# Altium schematic symbol library Heater.SchLib: 32 symbols
Pins are listed as number, name and electrical type; pins without a type are passive.

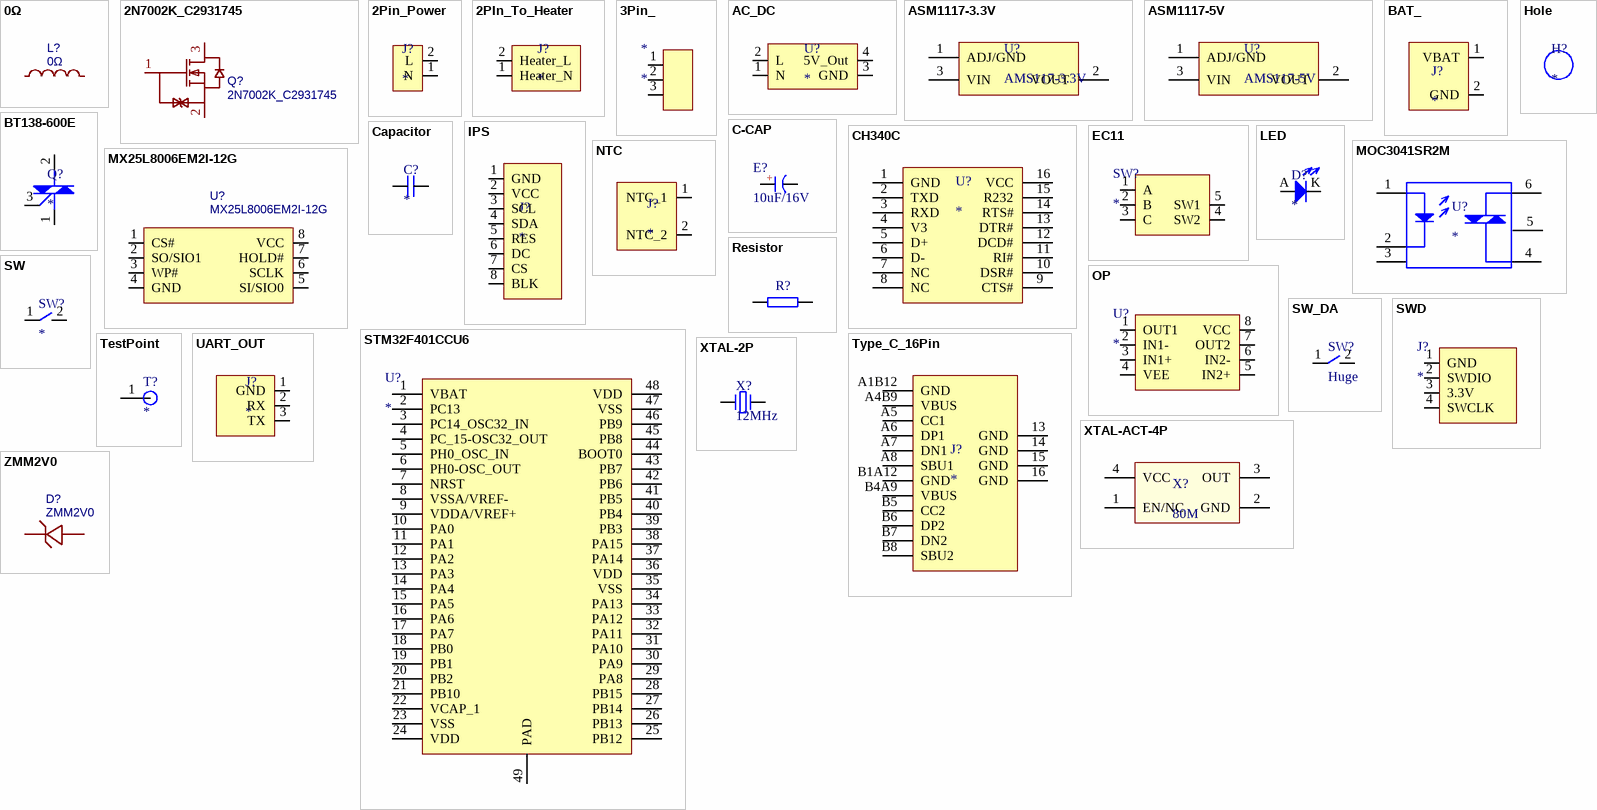
[diagram p0: symbols 0Ω to ZMM2V0]

## 0Ω
designator L?
BOM_Manufacturer: FH; BOM_Manufacturer Part: CBW160808U000T; nameAlias: Value; BOM_Supplier: LCSC; BOM_Supplier Part: C139173; BOM_JLCPCB Part Class: Extended Part; spicePre: L; spiceSymbolName: CBW160808U000T
footprint L0603
pins: 1, 2

## 2N7002K_C2931745
designator Q?
BOM_Manufacturer: Doeshare（德芯); Contributor: LCSC; BOM_Supplier: LCSC; BOM_Supplier Part: C2931745; BOM_Manufacturer Part: 2N7002K; spicePre: Q; spiceSymbolName: 2N7002K_C2931745
footprint SOT-23-3_NMOS
pins: 1 G, 2 S, 3 D

## 2Pin_Power
designator J?
footprint Power-AC-2Pin
pins: 1 N, 2 L

## 2PIn_To_Heater
designator J?
footprint CONN-TH_2.54-2P
pins: 1 Heater_N, 2 Heater_L

## 3Pin_
designator *
footprint 3Pin
pins: 1, 2, 3

## AC_DC
designator U?
footprint AC_TO_DC
pins: 1 N, 2 L, 3 GND, 4 5V_Out

## ASM1117-3.3V
designator U?, comment AMS117-3.3V
footprint SOT-223-3_L6.5-W3.4-P2.30-LS7.0-BR
pins: 1 ADJ/GND, 2 VOUT, 3 VIN

## ASM1117-5V
designator U?, comment AMS117-5V
footprint SOT-223-3_L6.5-W3.4-P2.30-LS7.0-BR
pins: 1 ADJ/GND, 2 VOUT, 3 VIN

## BAT_
designator J?
footprint VBAT
pins: 1 VBAT, 2 GND

## BT138-600E
designator Q?
footprint TO-220-3_L10.0-W4.5-P2.54-L
pins: 1, 2, 3

## C-CAP
designator E?, comment 10uF/16V
直插电解电容; 版权归属: 源创客; BOM名称: 直插电解电容; 学习资源: www.ooocke.com
pins: 1 A, 2 K
text: +

## Capacitor
designator C?
pins: 1, 2

## CH340C
designator U?
pins: 1 GND, 2 TXD, 3 RXD, 4 V3, 5 D+, 6 D-, 7 NC, 8 NC, 9 CTS#, 10 DSR#, 11 RI#, 12 DCD#, 13 DTR#, 14 RTS#, 15 R232, 16 VCC

## EC11
designator SW?
footprint EC11
pins: 1 A, 2 B, 3 C, 4 SW2, 5 SW1

## Hole
designator H?
footprint Hole

## IPS
designator J?
footprint IPS_8PIN - Simplified
pins: 1 GND, 2 VCC, 3 SCL, 4 SDA, 5 RES, 6 DC, 7 CS, 8 BLK

## LED
designator D?
footprint 0603_LED
pins: A, K

## MOC3041SR2M
designator U?
footprint DIP-6_MO
pins: 1 Anode, 2 Cathode, 3 NC, 4 Main Term, 5 NC, 6 Main Term

## MX25L8006EM2I-12G
designator U?
BOM_Manufacturer: Micronix; BOM_Supplier: LCSC; BOM_Manufacturer Part: MX25L8006EM2I-12G; BOM_Supplier Part: C71947; BOM_JLCPCB Part Class: Extended Part; spicePre: U; spiceSymbolName: MX25L8006EM2I-12G
footprint SOP-8_L5.3-W5.3-P1.27-LS8.0-BL
pins: 1 CS#, 2 SO/SIO1, 3 WP#, 4 GND, 5 SI/SIO0, 6 SCLK, 7 HOLD#, 8 VCC

## NTC
designator J?
footprint 2PIN
pins: 1 NTC_1, 2 NTC_2

## OP
designator U?
footprint SOP-8_OP
pins: 1 OUT1, 2 IN1-, 3 IN1+, 4 VEE, 5 IN2+, 6 IN2-, 7 OUT2, 8 VCC

## Resistor
designator R?  (value not drawn)
pins: 1, 2

## STM32F401CCU6
designator U?
footprint UFQFPN-48_L7.0-W7.0-P0.50-BL-EP
pins: 1 VBAT, 2 PC13, 3 PC14_OSC32_IN, 4 PC_15-OSC32_OUT, 5 PH0_OSC_IN, 6 PH0-OSC_OUT, 7 NRST, 8 VSSA/VREF-, 9 VDDA/VREF+, 10 PA0, 11 PA1, 12 PA2, 13 PA3, 14 PA4, 15 PA5, 16 PA6, 17 PA7, 18 PB0, 19 PB1, 20 PB2, 21 PB10, 22 VCAP_1, 23 VSS, 24 VDD, 25 PB12, 26 PB13, 27 PB14, 28 PB15, 29 PA8, 30 PA9, 31 PA10, 32 PA11, 33 PA12, 34 PA13, 35 VSS, 36 VDD, 37 PA14, 38 PA15, 39 PB3, 40 PB4, 41 PB5, 42 PB6, 43 PB7, 44 BOOT0, 45 PB8, 46 PB9, 47 VSS, 48 VDD, 49 PAD

## SW
designator SW?
footprint SW-SMD_5P-L6.4-W6.2-P4.50-LS8.2-TL
pins: 1, 2

## SW_DA
designator SW?, comment Huge
footprint SW
pins: 1, 2

## SWD
designator J?
footprint 4PIN
pins: 1 GND, 2 SWDIO, 3 3.3V, 4 SWCLK

## TestPoint
designator T?
footprint TestPoint
pins: 1

## Type_C_16Pin
designator J?
footprint USB-C-SMD_TYPEC-304-BCP16
pins: 13 GND, 14 GND, 15 GND, 16 GND, A1B12 GND, A4B9 VBUS, A5 CC1, A6 DP1, A7 DN1, A8 SBU1, B1A12 GND, B4A9 VBUS, B5 CC2, B6 DP2, B7 DN2, B8 SBU2

## UART_OUT
designator J?
pins: 1 GND, 2 RX, 3 TX

## XTAL-2P
designator X?, comment 12MHz
2脚无源脚晶振; 版权归属: 源创客; BOM名称: 2脚无源脚晶振; 学习资源: www.ooocke.com
footprint HC-49US_L11.0-W4.6-P4.88 - duplicate
pins: 1, 2

## XTAL-ACT-4P
designator X?, comment 80M
4脚有源晶振; 版权归属: 源创客; BOM名称: 4脚有源晶振; 学习资源: www.ooocke.com
footprint OSC 3225
pins: 1 EN/NC, 2 GND, 3 OUT, 4 VCC

## ZMM2V0
designator D?
BOM_Manufacturer: SEMTECH; BOM_Supplier: LCSC; BOM_Manufacturer Part: ZMM2V0; BOM_Supplier Part: C8079; BOM_JLCPCB Part Class: Extended Part; spicePre: D; spiceSymbolName: ZMM2V0
footprint LL-34_L3.5-W1.5-RD
pins: 1 C, 2 A